# Altium footprint library Transistor.PcbLib: 5 footprints
Each footprint in its own frame and in the unit in brackets; x right, y up, seen from the top. Pads: shape width x height; smd on the part's side, far side on the other; paste and mask are expansions set on the pad; w line width, h text height; cw(c..) or ccw(c..) is an arc to the next point about the centre after c.
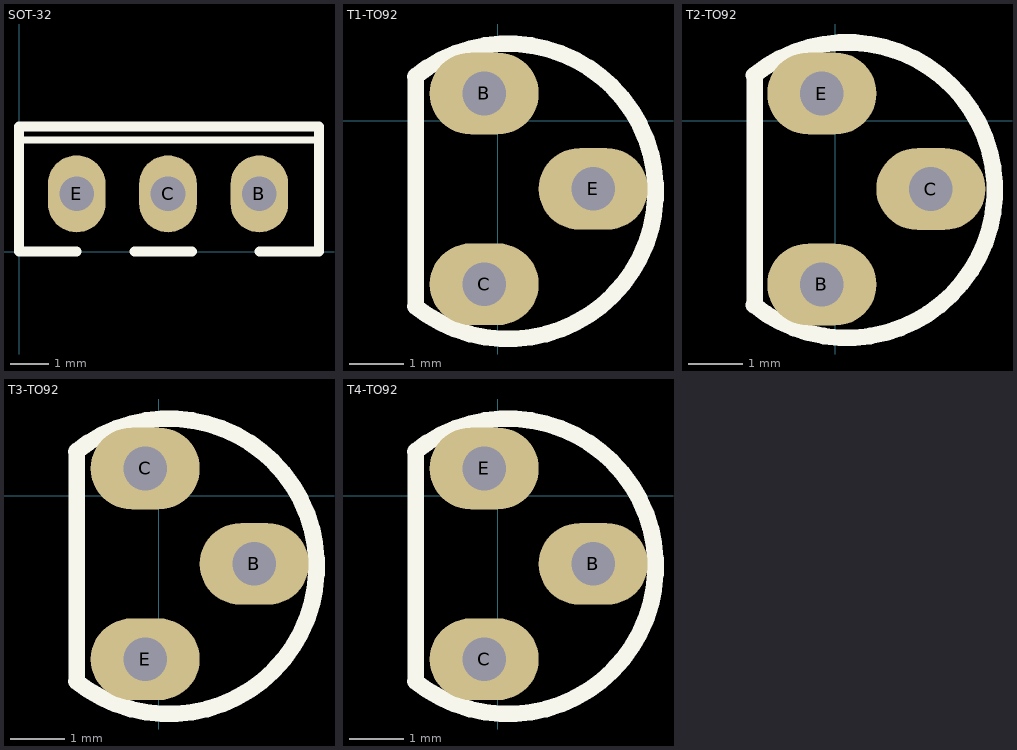
[diagram p0: the footprints below, top view; thin cyan lines are the x and y axes]

## SOT-32 [mm]
pads (3):
  oval 1.5x2 hole 0.9: B(6.25,1.5) C(3.875,1.5) E(1.5,1.5)
Top Overlay:
  lines w0.18: 0,2.9 7.8,2.9
  lines w0.254: 1.5,0 0,0 0,3.25 7.8,3.25 7.8,0 ; 3,0 4.5,0 ; 6.25,0 7.75,0

## T1-TO92 [mm]
pads (3):
  oval 2x1.5 hole 0.8: B(-0.25,0.5) C(-0.25,-3) E(1.75,-1.25)
Top Overlay:
  lines w0.305: -1.519,-3.401 ccw(c0.186,-1.295) -1.519,0.81 ; -1.507,-3.412 -1.507,0.821

## T2-TO92 [mm]
pads (3):
  oval 2x1.5 hole 0.8: B(-0.25,-3) C(1.75,-1.25) E(-0.25,0.5)
Top Overlay:
  lines w0.305: -1.493,-3.376 ccw(c0.212,-1.27) -1.493,0.836 ; -1.482,-3.387 -1.482,0.847

## T3-TO92 [mm]
pads (3):
  oval 2x1.5 hole 0.8: B(1.75,-1.25) C(-0.25,0.5) E(-0.25,-3)
Top Overlay:
  lines w0.305: -1.519,-3.401 ccw(c0.186,-1.295) -1.519,0.81 ; -1.507,-3.412 -1.507,0.821

## T4-TO92 [mm]
pads (3):
  oval 2x1.5 hole 0.8: B(1.75,-1.25) C(-0.25,-3) E(-0.25,0.5)
Top Overlay:
  lines w0.305: -1.519,-3.401 ccw(c0.186,-1.295) -1.519,0.81 ; -1.507,-3.412 -1.507,0.821